# Altium footprint library pinhead.PCBLIB: 5 footprints
Each footprint in its own frame and in the unit in brackets; x right, y up, seen from the top. Pads: shape width x height; smd on the part's side, far side on the other; paste and mask are expansions set on the pad; w line width, h text height; cw(c..) or ccw(c..) is an arc to the next point about the centre after c.
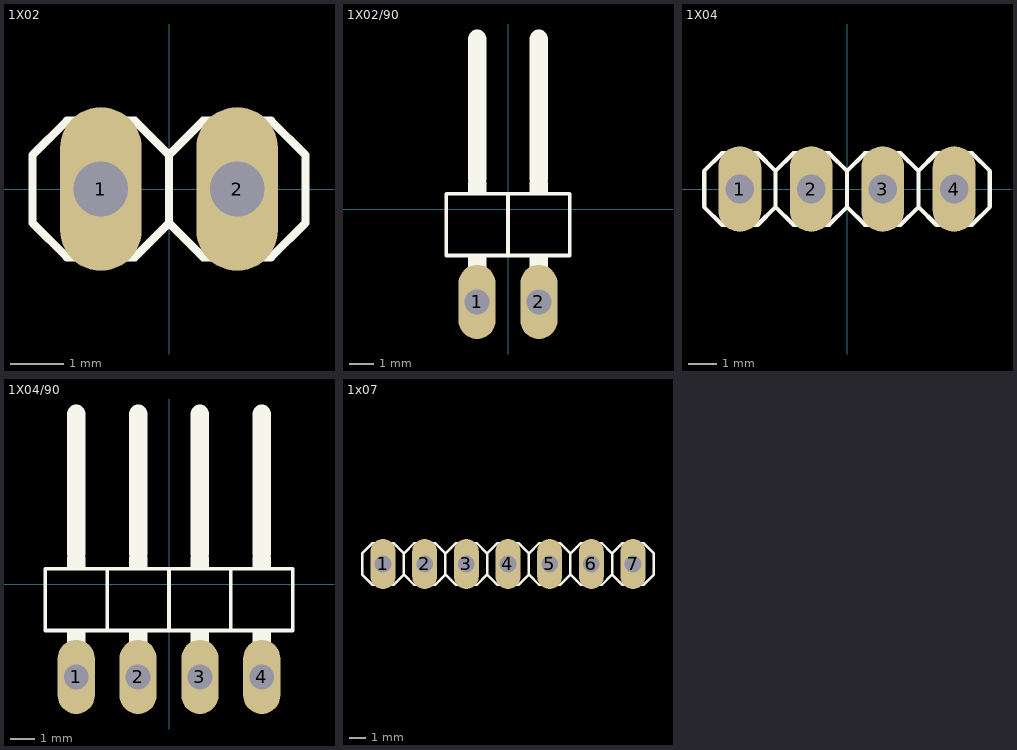
[diagram p0: the footprints below, top view; thin cyan lines are the x and y axes]

## 1X02 [mil]
pads (2):
  oval 60x120 hole 40: 1(-50,0) 2(50,0)
Top Overlay:
  lines w6: 0,-25 0,25 ; 0,-25 -25,-50 -75,-50 -100,-25 -100,25 -75,50 -25,50 0,25 ; 0,-25 25,-50 75,-50 100,-25 100,25 75,50 25,50 0,25
Mechanical 16:
  rectangle: -60,-10 -40,10
  rectangle: 40,-10 60,10

## 1X02/90 [mil]
pads (2):
  oval 60x120 hole 40: 1(-50,-150) 2(50,-150)
Top Overlay:
  rectangle: 35,-115 65,-75
  rectangle: -65,-115 -35,-75
  rectangle: 35,25 65,45
  rectangle: -65,25 -35,45
  lines w6: 0,-75 100,-75 100,25 0,25 ; 0,-75 0,25 ; 0,-75 -100,-75 -100,25 0,25
  lines w30: -50,50 -50,275 ; 50,50 50,275

## 1X04 [mil]
pads (4):
  oval 60x120 hole 40: 1(-150,0) 2(-50,0) 3(50,0) 4(150,0)
Top Overlay:
  lines w6: -100,-25 -100,25 ; -100,-25 -125,-50 -175,-50 -200,-25 -200,25 -175,50 -125,50 -100,25 ; -100,-25 -75,-50 -25,-50 0,-25 ; -100,25 -75,50 -25,50 0,25 ; 0,-25 25,-50 75,-50 100,-25 ; 0,-25 0,25 ; 0,25 25,50 75,50 100,25 ; 100,-25 100,25 ; 100,-25 125,-50 175,-50 200,-25 200,25 175,50 125,50 100,25
Mechanical 16:
  rectangle: 40,-10 60,10
  rectangle: -60,-10 -40,10
  rectangle: -160,-10 -140,10
  rectangle: 140,-10 160,10

## 1X04/90 [mil]
pads (4):
  oval 60x120 hole 40: 1(-150,-150) 2(-50,-150) 3(50,-150) 4(150,-150)
Top Overlay:
  rectangle: -165,25 -135,45
  rectangle: -65,25 -35,45
  rectangle: 35,25 65,45
  rectangle: 135,25 165,45
  rectangle: -165,-115 -135,-75
  rectangle: -65,-115 -35,-75
  rectangle: 35,-115 65,-75
  rectangle: 135,-115 165,-75
  lines w6: -100,-75 -200,-75 -200,25 -100,25 ; -100,-75 -100,25 ; -100,-75 0,-75 ; -100,25 0,25 ; 0,-75 0,25 ; 0,-75 100,-75 ; 0,25 100,25 ; 100,-75 100,25 ; 100,-75 200,-75 200,25 100,25
  lines w30: -150,50 -150,275 ; -50,50 -50,275 ; 50,50 50,275 ; 150,50 150,275

## 1x07 [mil]
pads (7):
  oval 60x120 hole 40: 1(-49390,-49760) 2(-49290,-49760) 3(-49190,-49760) 4(-49090,-49760) 5(-48990,-49760) 6(-48890,-49760) 7(-48790,-49760)
Top Overlay:
  lines w6: -49340,-49785 -49315,-49810 -49265,-49810 -49240,-49785 ; -49340,-49785 -49365,-49810 -49415,-49810 -49440,-49785 -49440,-49735 -49415,-49710 -49365,-49710 -49340,-49735 ; -49340,-49785 -49340,-49735 ; -49340,-49735 -49315,-49710 -49265,-49710 -49240,-49735 ; -49240,-49785 -49240,-49735 ; -49240,-49785 -49215,-49810 -49165,-49810 -49140,-49785 ; -49240,-49735 -49215,-49710 -49165,-49710 -49140,-49735 ; -49140,-49785 -49115,-49810 -49065,-49810 -49040,-49785 ; -49140,-49785 -49140,-49735 ; -49140,-49735 -49115,-49710 -49065,-49710 -49040,-49735 ; -49040,-49785 -49040,-49735 ; -49040,-49785 -49015,-49810 -48965,-49810 -48940,-49785 ; -49040,-49785 -49040,-49735 ; -49040,-49735 -49015,-49710 -48965,-49710 -48940,-49735 ; -48940,-49785 -48915,-49810 -48865,-49810 -48840,-49785 ; -48940,-49785 -48940,-49735 ; -48940,-49735 -48915,-49710 -48865,-49710 -48840,-49735 ; -48840,-49785 -48840,-49735 ; -48840,-49785 -48815,-49810 -48765,-49810 -48740,-49785 -48740,-49735 -48765,-49710 -48815,-49710 -48840,-49735
Mechanical 16:
  rectangle: -48900,-49770 -48880,-49750
  rectangle: -49000,-49770 -48980,-49750
  rectangle: -48800,-49770 -48780,-49750
  rectangle: -49100,-49770 -49080,-49750
  rectangle: -49400,-49770 -49380,-49750
  rectangle: -49300,-49770 -49280,-49750
  rectangle: -49200,-49770 -49180,-49750